# Altium schematic symbol library occhi.SchLib: 24 symbols (part 2 of 2)
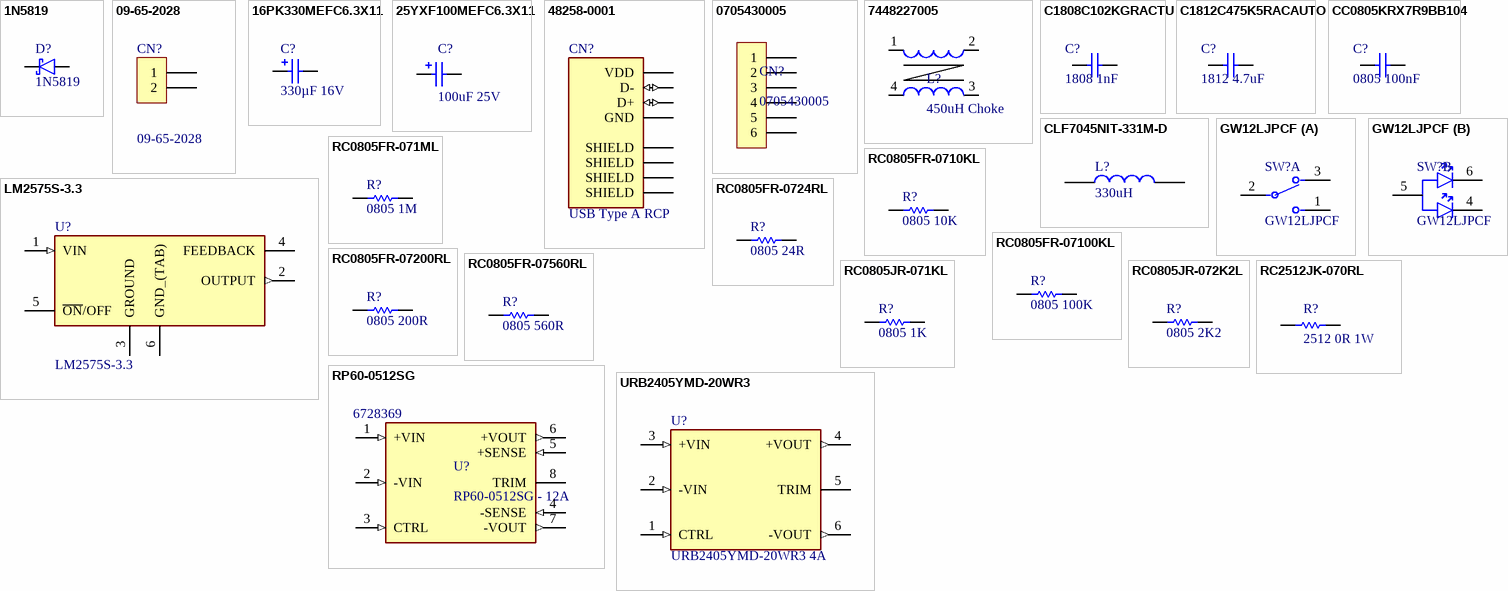
[diagram p1: symbols 1N5819 to URB2405YMD-20WR3]

## RC0805JR-072K2L
designator R?, comment 0805 2K2
2.2K Ohm 0805 ±5% 1/8W ±100ppm/℃ 0805; Manufacturer: Yageo; Manufacturer Part Number: RC0603JR-072K2L; Resistance: 2.2kR; Temperature Coefficient: 100ppm/°C; Voltage Rating (DC): 50V; Power Rating: 100mW; RoHS: Yes; Category: Chip SMD Resistors; Stock 1: 2611464; Pricing 1: 1=0,10000, 10=0,02000, 100=0,00800, 1000=0,00360, 2500=0,00312 (USD); Case/Package: 0603; Number of Pins: 2; Case Code (Imperial): 0603; Case Code (Metric): 1608; Size Code: 0603; Min Operating Temperature: -55°C; Max Operating Temperature: 155°C; Tolerance: 5%; Resistor Type: Thick Film; Packaging: Tape and Reel; Voltage Rating: 50V; Termination: SMD/SMT; Features: Moisture Resistant; Series: RC; Max Power Dissipation: 100mW; Number of Terminations: 2; Resistance Tolerance: 5%; Construction: Rectangular; Length: 1.6mm; Width: 0.8mm; Depth: 0.8mm; REACH SVHC: Unknown; Lead Free: Lead Free; Military Standard: Not; RoHS Compliant: Yes; ComponentLink1URL: http://www.mouser.com/ds/2/447/RC0603-272842.pdf?src-supplier=Mouser; ComponentLink1Description: http://www.mouser.com/ds/2/447/RC0603-272842.pdf?src-supplier=Mouser; ComponentLink2URL: http://www.farnell.com/datasheets/1868787.pdf?src-supplier=Farnell; ComponentLink2Description: http://www.farnell.com/datasheets/1868787.pdf?src-supplier=Farnell; ComponentLink3URL: http://components.arrow.com/part/dataview/0323_00047615?src-supplier=Arrow+Europe; ComponentLink3Description: http://components.arrow.com/part/dataview/0323_00047615?src-supplier=Arrow+Europe; ComponentLink4URL: http://www.yageo.com/documents/recent/PYu-RC_Group_51_RoHS_L_10.pdf?src-supplier=Digi-Key; ComponentLink4Description: http://www.yageo.com/documents/recent/PYu-RC_Group_51_RoHS_L_10.pdf?src-supplier=Digi-Key; ComponentLink5URL: http://www.yageo.com/documents/recent/PYu-RC0603_51_RoHS_L_7.pdf?src-supplier=Future+Electronics; ComponentLink5Description: http://www.yageo.com/documents/recent/PYu-RC0603_51_RoHS_L_7.pdf?src-supplier=Future+Electronics; ComponentLink6URL: http://www.farnell.com/datasheets/2167052.pdf?src-supplier=Newark; ComponentLink6Description: http://www.farnell.com/datasheets/2167052.pdf?src-supplier=Newark; ComponentLink7URL: http://www.farnell.com/datasheets/1868787.pdf?src-supplier=Element14; ComponentLink7Description: http://www.farnell.com/datasheets/1868787.pdf?src-supplier=Element14; Stock 2: 36600; Pricing 2: 5000=0,00300 (GBP); Contact Plating: Tin,Lead,Matte; Radiation Hardening: No; ComponentLink8URL: https://datasheet.ciiva.com/12667/rc0805-12667397.pdf?src-supplier=Mouser; ComponentLink8Description: https://datasheet.ciiva.com/12667/rc0805-12667397.pdf?src-supplier=Mouser; ComponentLink9URL: https://datasheet.ciiva.com/7941/442941-7941935.pdf?src-supplier=Element14; ComponentLink9Description: https://datasheet.ciiva.com/7941/442941-7941935.pdf?src-supplier=Element14; ComponentLink10URL: https://datasheet.ciiva.com/15190/getdatasheetpartid-251869-15190044.pdf?src-supplier=Verical; ComponentLink10Description: https://datasheet.ciiva.com/15190/getdatasheetpartid-251869-15190044.pdf?src-supplier=Verical; Supplier 1: RSComponents; Supplier Part Number 1: 1995763
footprint RES0805 (Chip Resistor, 2-Leads, Body 2.00x1.25mm, IPC Medium Density)
pins: 1, 2

## RC2512JK-070RL
designator R?, comment 2512 0R 1W
RC Series 2512 1 W 0 Ohm Jumper Surface Mount Thick Film Chip Resistor; Manufacturer: Yageo; Manufacturer Part Number: RC2512JK-070RL; Resistance: 0mR; Tolerance: 5%; Voltage Rating: 200V; Temperature Coefficient: 200ppm/°C; Supplier 1: Digi-Key; RoHS: Yes; Category: Chip SMD Resistors; Stock 1: 34785; Pricing 1: 1=0,31000, 10=0,26100, 25=0,19000, 50=0,13780, 100=0,10220, 250=0,07840, 500=0,06178, 1000=0,04277 (USD); Case/Package: 2512; Contact Plating: Tin,Matte; Case Code (Imperial): 2512; Case Code (Metric): 6432; Size Code: 2512; Min Operating Temperature: -55°C; Max Operating Temperature: 155°C; Power Rating: 1W; Packaging: Tape and Reel; Package Quantity: 4000; Resistor Type: Thick Film; Termination: SMD/SMT; Number of Terminations: 2; Max Power Dissipation: 1W; Features: Moisture Resistant; Series: RC; Resistance Tolerance: 5%; Length: 0.25inch; Width: 3.1mm; Height: 0.026inch; Radiation Hardening: No; REACH SVHC: Unknown; Lead Free: Lead Free; RoHS Compliant: Yes; ComponentLink1URL: https://datasheet.ciiva.com/7672/1699814-7672026.pdf?src-supplier=Element14; ComponentLink1Description: https://datasheet.ciiva.com/7672/1699814-7672026.pdf?src-supplier=Element14; ComponentLink2URL: https://datasheet.ciiva.com/17205/pyu-rc2512-51-rohs-l-4-17205257.pdf?src-supplier=Future+Electronics; ComponentLink2Description: https://datasheet.ciiva.com/17205/pyu-rc2512-51-rohs-l-4-17205257.pdf?src-supplier=Future+Electronics; ComponentLink3URL: https://datasheet.ciiva.com/7672/1699814-7672027.pdf?src-supplier=Element14; ComponentLink3Description: https://datasheet.ciiva.com/7672/1699814-7672027.pdf?src-supplier=Element14; Supplier Part Number 1: YAG1232CT-ND
footprint RES2512 (Chip Resistor, 2-Leads, Body 6.45x3.25mm, IPC Medium Density)
pins: 1, 2

## RP60-0512SG
designator U?, comment RP60-0512SG - 12A  Supplier Part Number 1: 6728369
Isolated Board Mount DC/DC Converter, DIP, Fixed, Through Hole, 60 W, 5 V, 12 A; Manufacturer: Recom; Manufacturer Part Number: RP60-2412SG; Description: Isolated Board Mount DC/DC Converter, DIP, Fixed, Adjustable, Through Hole, 60 W, 12 V, 5 A; Output Current: 5A; Output Voltage: 12V; Output Power: 60W; Min Input Voltage: 18V; Number of Outputs: 1; Max Input Voltage: 36V; Efficiency: 90%; Nominal Input Voltage: 24V; Isolation Voltage: 1.6kV; Max Output Voltage: 13.2V; RoHS: Yes; Category: Board Mount Modules; Stock 1: 6; Pricing 1: 1=132,87000, 5=130,77400, 10=129,72800, 25=121,35840, 50=117,17360, 100=111,59400 (USD); Mount: Through Hole; Number of Pins: 8; Weight: 60g; Min Operating Temperature: -40°C; Max Operating Temperature: 100°C; Packaging: Rail/Tube; Max Output Current: 5A; Package Quantity: 4; Voltage - Output 1: 12V; Max Power Dissipation: 60W; Features: UVLO,OVP,OCP,OTP,SCP; Series: POWERLINE RP60-G; Isolation: Isolated; Min Input Voltage (DC): 18V; Nominal Output Voltage: 12V; Max Input Voltage (DC): 36V; Max Output Power: 60W; Current - Output 1: 5A; Length: 50.8mm; Width: 50.8mm; Height: 10.2mm; Depth: 50.8mm; Lead Free: Lead Free; RoHS Compliant: Yes; REACH SVHC: No SVHC; ComponentLink1URL: https://datasheet.ciiva.com/8072/rp60-sg-8072469.pdf?src-supplier=Element14; ComponentLink1Description: https://datasheet.ciiva.com/8072/rp60-sg-8072469.pdf?src-supplier=Element14; ComponentLink2URL: https://datasheet.ciiva.com/2204/rp60-sg-2204843.pdf?src-supplier=Digi-Key; ComponentLink2Description: https://datasheet.ciiva.com/2204/rp60-sg-2204843.pdf?src-supplier=Digi-Key; ComponentLink3URL: https://datasheet.ciiva.com/3356/rjrp60-g-3356775.pdf?src-supplier=Distrelec; ComponentLink3Description: https://datasheet.ciiva.com/3356/rjrp60-g-3356775.pdf?src-supplier=Distrelec; Stock 2: 4; Pricing 2: 1=100,30000, 5=97,29000, 10=94,28000, 25=91,27000, 50=88,26000 (GBP); Case/Package: Module; ComponentLink4URL: https://datasheet.ciiva.com/17077/rp60-2405sg-17077731.pdf?src-supplier=Allied+Electronics; ComponentLink4Description: https://datasheet.ciiva.com/17077/rp60-2405sg-17077731.pdf?src-supplier=Allied+Electronics; ComponentLink5URL: https://datasheet.ciiva.com/2204/rp60-sg-2204842.pdf?src-supplier=Digi-Key; ComponentLink5Description: https://datasheet.ciiva.com/2204/rp60-sg-2204842.pdf?src-supplier=Digi-Key; ComponentLink6URL: https://datasheet.ciiva.com/3356/rjrp60-g-3356774.pdf?src-supplier=Distrelec; ComponentLink6Description: https://datasheet.ciiva.com/3356/rjrp60-g-3356774.pdf?src-supplier=Distrelec; ComponentLink7URL: https://datasheet.ciiva.com/46416/1842334-46416346.pdf?src-supplier=Element14; ComponentLink7Description: https://datasheet.ciiva.com/46416/1842334-46416346.pdf?src-supplier=Element14; Supplier 1: RSComponents
footprint CONV_RP60-2412SG
pins: 1 +VIN (in), 2 -VIN (in), 3 CTRL (in), 4 -SENSE (in), 5 +SENSE (in), 6 +VOUT (out), 7 -VOUT (out), 8 TRIM

## URB2405YMD-20WR3
designator U?, comment URB2405YMD-20WR3 4A
Module DC-DC 24VIN 1-OUT 5V 4A 20W 6-Pin EPE; Manufacturer: MORNSUN; MF: Mornsun America, LLC; Package: CUSTOM-6 MORNSUN; Availability: In Stock; Check_prices: https://www.snapeda.com/parts/URB2405YMD-20WR3/MORNSUN/view-part/5823817/?ref=eda; Value: *; MP: URB2405YMD-20WR3; SnapEDA_Link: https://www.snapeda.com/parts/URB2405YMD-20WR3/MORNSUN/view-part/5823817/?ref=snap; Price: None; Supplier 1: Digi-Key; Manufacturer Part Number: URB2405YMD-20WR3; RoHS: Yes; Category: Board Mount Modules; Stock 1: 346; Pricing 1: 1=22,83000, 5=22,48800, 10=22,15100, 25=21,51000, 50=20,48620, 100=19,89000, 250=19,30504, 500=18,67508 (USD); Supplier Part Number 1: 2725-URB2405YMD-20WR3-ND
footprint CONV_URB2405YMD-20WR3
pins: 1 CTRL (in), 2 -VIN (in), 3 +VIN (in), 4 +VOUT (out), 5 TRIM, 6 -VOUT (out)